# Altium schematic symbol library WL-SFTW_150141M173100.Schlib: 1 symbol
Pins are listed as number, name and electrical type; pins without a type are passive.

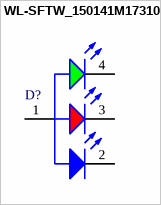
[diagram p0: symbol WL-SFTW_150141M173100]

## WL-SFTW_150141M173100
designator D?
pins: 1 A, 2 K, 3 K, 4 K